# Altium integrated library USB-C.IntLib: 1 symbol
Pins are listed as number, name and electrical type; pins without a type are passive.

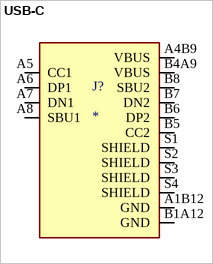
[diagram p0: symbol USB-C]

## USB-C
designator J?
USB-C (USB TYPE-C) USB 3.2 Gen 2 (USB 3.1 Gen 2, Superspeed + (USB 3.1)) Receptacle Connector 24 Position Surface Mount, Through Hole; MF: Adam Technologies; SnapEDA_Link: https://www.snapeda.com/parts/USB-C/Adam+Tech/view-part/?ref=snap; Package: None; Value: *; MP: USB-C; Check_prices: https://www.snapeda.com/parts/USB-C/Adam+Tech/view-part/?ref=eda
footprint HRO_TYPE-C-31-M-12
pins: A1B12 GND (power), A4B9 VBUS (power), A5 CC1 (io), A6 DP1 (io), A7 DN1 (io), A8 SBU1 (io), B1A12 GND (power), B4A9 VBUS (power), B5 CC2 (io), B6 DP2 (io), B7 DN2 (io), B8 SBU2 (io), S1 SHIELD, S2 SHIELD, S3 SHIELD, S4 SHIELD